# EAGLE library part TORX1950A_F_ (library TORX1950A_F_)
Optical Receiver 10Mbps Single 50m 6-Pin ) Source: Datasheet
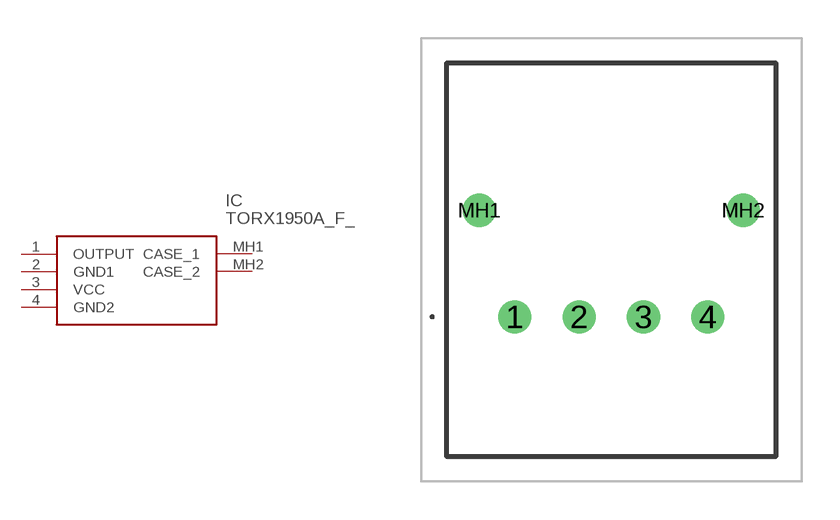
[diagram p0: symbol with the pads of TORX1950AF; footprint TORX1950AF]

Designator prefix IC

## TORX1950A_F_ (Description: Optical Receiver 10Mbps Single 50m 6-Pin ); Height: 8.8mm; Manufacturer_Name: Toshiba; Manufacturer_Part_Number: TORX1950A(F); Mouser_Part_Number: 71-TORX1950A(F); Mouser_Price-Stock: https://www.mouser.co.uk/ProductDetail/Toshiba/TORX1950AF?qs=gev7jUp%252BQ%252BhPDbv%252Bwuk0PA%3D%3D)  [TORX1950AF]
1  OUTPUT
2  GND1
3  VCC
4  GND2
MH1  CASE_1
MH2  CASE_2

## Footprint TORX1950AF (pad centres in mm)
TORX1950A(F)-2
drill 0.76 pad 1.303: 1 0,0; 2 2.54,0; 3 5.08,0; 4 7.62,0
drill 0.8 pad 1.3: MH1 -1.39,4.2; MH2 9.01,4.2